# EAGLE library part CONNECTOR-6 (library HyTechDevices - Copy)
6 Pin Connector
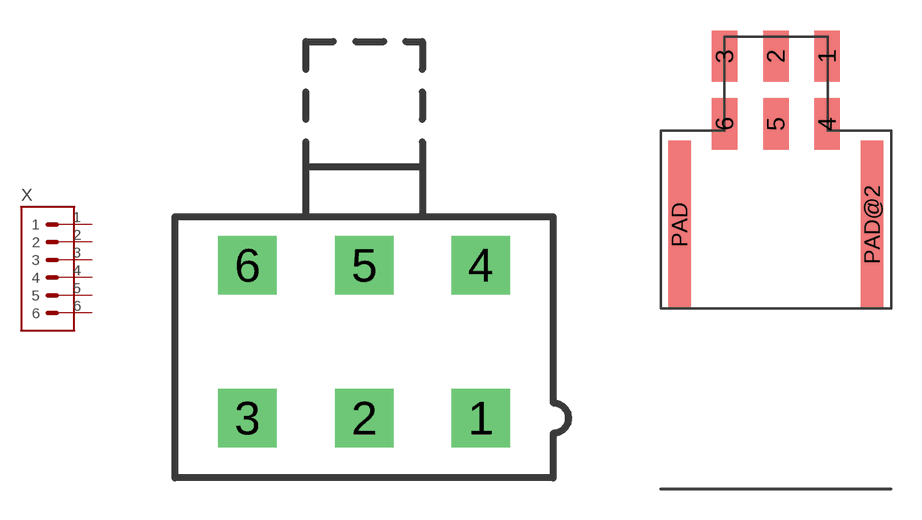
[diagram p0: symbol with the pads of MOLEX_MINIFIT_PTH_06; footprints MOLEX_MINIFIT_PTH_06, MOLEX_NANOFIT_SMD_RIGHTANGLE_06]

Designator prefix X

## CONNECTOR-6 (MPN: 95566-61002; OC_FARNELL: unknown; OC_NEWARK: 22K8620)  [MOLEX_MINIFIT_PTH_06]
1  1  pas
2  2  pas
3  3  pas
4  4  pas
5  5  pas
6  6  pas

## CONNECTOR-6NANO-FIT_RIGHT_ANGLE-6-SURFACE  [MOLEX_NANOFIT_SMD_RIGHTANGLE_06]
Pads as for MOLEX_MINIFIT_PTH_06

## CONNECTOR-6NANO-FIT_VERTICAL-6  [MOLEX_NANOFIT_PTH_06]
Pads as for MOLEX_MINIFIT_PTH_06

## CONNECTOR-6HEADER  [1X06]
Pads as for MOLEX_MINIFIT_PTH_06

## Footprint MOLEX_MINIFIT_PTH_06 (pad centres in mm)
6 Pin Mini-Fit Vertical Header, Through Hole, Dual Row Part <https://www.molex.com/molex/products/part-detail/pcb_headers/0039281063> Footprint <https://www.molex.com/pdm_docs/sd/0039281063_sd.pdf>
drill 1.4 square: 1 4.2,-2.75; 2 0,-2.75; 3 -4.2,-2.75; 4 4.2,2.75; 5 0,2.75; 6 -4.2,2.75

## Footprint MOLEX_NANOFIT_SMD_RIGHTANGLE_06 (pad centres in mm)
6 Pin Nano-Fit Vertical Header, PCB Mount, Dual Row Part <https://www.molex.com/molex/products/part-detail/pcb_headers/1054051206> Footprint <https://www.molex.com/pdm_docs/sd/1054051206_sd.pdf>
smd 1.24 x 2.5: 1 2.5,1.65; 2 0,1.65; 3 -2.5,1.65; 4 2.5,-1.65; 5 0,-1.65; 6 -2.5,-1.65
smd 1.1 x 8.2: PAD -4.7,-6.58; PAD@2 4.7,-6.58

## Footprint MOLEX_NANOFIT_PTH_06 (pad centres in mm)
6 Pin Nano-Fit™ Vertical Header, Through Hole, Dual Row Part <https://www.molex.com/molex/products/part-detail/pcb_headers/1053101206> Footprint <https://www.molex.com/pdm_docs/sd/1053101206_sd.pdf>
drill 1.2: 1 2.5,0; 2 0,0; 3 -2.5,0; 4 2.5,-2.5; 5 0,-2.5; 6 -2.5,-2.5
hole 1.3 at 1.25,1.34

## Footprint 1X06 (pad centres in mm)
0.1" Pitch Pin Header
drill 1.016: 1 -6.35,0; 2 -3.81,0; 3 -1.27,0; 4 1.27,0; 5 3.81,0; 6 6.35,0